# EAGLE library part TDCG1060M (library TDCG1060M)
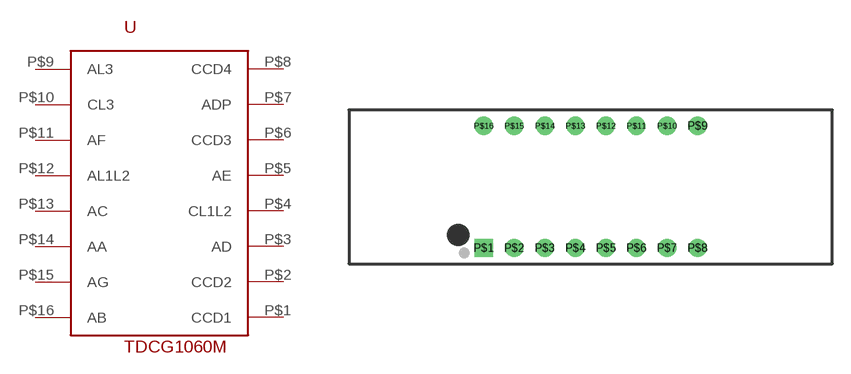
[diagram p0: symbol with the pads of TDCG1060M; footprint TDCG1060M]

Designator prefix -

## TDCG1060M  [TDCG1060M]
P$1  CCD1
P$2  CCD2
P$3  AD
P$4  CL1L2
P$5  AE
P$6  CCD3
P$7  ADP
P$8  CCD4
P$9  AL3
P$10  CL3
P$11  AF
P$12  AL1L2
P$13  AC
P$14  AA
P$15  AG
P$16  AB

## Footprint TDCG1060M (pad centres in mm)
drill 1 square: P$1 -8.89,-5.08
drill 1: P$2 -6.35,-5.08; P$3 -3.81,-5.08; P$4 -1.27,-5.08; P$5 1.27,-5.08; P$6 3.81,-5.08; P$7 6.35,-5.08; P$8 8.89,-5.08; P$9 8.89,5.08; P$10 6.35,5.08; P$11 3.81,5.08; P$12 1.27,5.08; P$13 -1.27,5.08; P$14 -3.81,5.08; P$15 -6.35,5.08; P$16 -8.89,5.08